# EAGLE library part CX90B-16P (library connector)
USB C 2.0 Receptacle
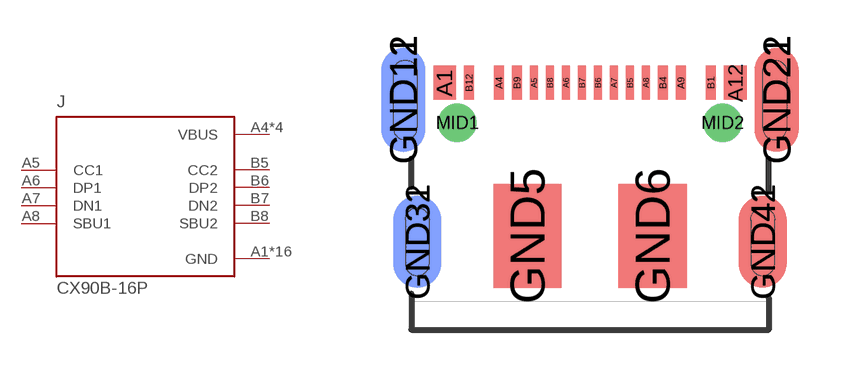
[diagram p8: symbol with the pads of CX90B-16P; footprint CX90B-16P]

Designator prefix J

## CX90B-16P (DIGIKEY: 26-CX90B-16PCT-ND; MANUFACTURER: Hirose; MPN: CX90B-16P)  [CX90B-16P]
A1  GND  pwr
A4  VBUS  pwr
A5  CC1
A6  DP1
A7  DN1
A8  SBU1
A9  VBUS  pwr
A12  GND  pwr
B1  GND  pwr
B4  VBUS  pwr
B5  CC2
B6  DP2
B7  DN2
B8  SBU2
B9  VBUS  pwr
B12  GND  pwr
GND5  GND  pwr
GND6  GND  pwr
GND11  GND  pwr
GND12  GND  pwr
GND21  GND  pwr
GND22  GND  pwr
GND31  GND  pwr
GND32  GND  pwr
GND41  GND  pwr
GND42  GND  pwr
MID1  GND  pwr
MID2  GND  pwr

## Footprint CX90B-16P (pad centres in mm)
NOTE!!! THIS PART ONLY INTENDED FOR 2 OR 4 LAYER DESIGNS MILLING SLOTS DO NOT AVOID INTERNAL LAYERS BESIDES 2 AND 15
smd 0.57 x 0.85: A1 -3.635,0; A12 3.635,0
smd 0.25 x 0.85: A4 -2.275,0; A9 2.275,0; B1 3.025,0; B4 1.825,0; B9 -1.825,0; B12 -3.025,0
smd 0.2 x 0.85: A5 -1.4,0; A6 -0.6,0; A7 0.6,0; A8 1.4,0; B5 1,0; B6 0.2,0; B7 -0.2,0; B8 -1,0
smd 1.71 x 2.6: GND5 -1.565,-3.825; GND6 1.565,-3.825
smd 1.1 x 2.6: GND11 -4.67,-0.425; GND21 4.67,-0.425
smd 1.1 x 2.6 bottom: GND12 -4.67,-0.425; GND22 4.67,-0.425
smd 1.2 x 2.3: GND31 -4.32,-3.975; GND41 4.32,-3.975
smd 1.2 x 2.3 bottom: GND32 -4.32,-3.975; GND42 4.32,-3.975
drill 0.45 pad 0.75: MID1 -3.32,-1; MID2 3.32,-1